# EAGLE library part 68712014522 (library Eagle_FPC_CONNECTOR_AND_FFC_CAB (rev18c))
WE-FPC 0.5mm SMT ZIF Horizontal Bottom Contact, 20 Pins=>Code : Con_FPC_ZIF_0.50_68712014522 <http://katalog.we-online.de/media/images/eican/Con_FPC_ZIF_0.50_6871xx14522_pf2.jpg> Details see: http://katalog.we-online.de/en/em/687_1xx_145_22 Created 2014-07-09, Karrer Zheng 2014 (C) Würth Elektronik
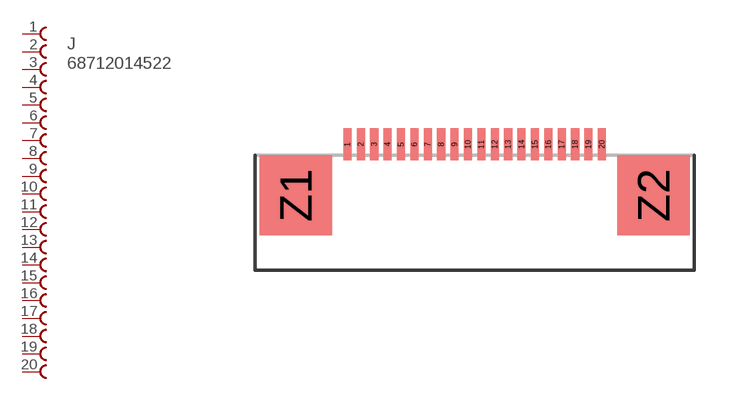
[diagram p59: symbol with the pads of 68712014522; footprint 68712014522]

Designator prefix J

## 68712014522  [68712014522]
1  1  pas
2  2  pas
3  3  pas
4  4  pas
5  5  pas
6  6  pas
7  7  pas
8  8  pas
9  9  pas
10  10  pas
11  11  pas
12  12  pas
13  13  pas
14  14  pas
15  15  pas
16  16  pas
17  17  pas
18  18  pas
19  19  pas
20  20  pas

## Footprint 68712014522 (pad centres in mm)
WE-FPC 0.5mm SMT ZIF Horizontal Bottom Contact, 20 Pins
smd 0.3 x 1.2: 1 -4.75,1.9; 2 -4.25,1.9; 3 -3.75,1.9; 4 -3.25,1.9; 5 -2.75,1.9; 6 -2.25,1.9; 7 -1.75,1.9; 8 -1.25,1.9; 9 -0.75,1.9; 10 -0.25,1.9; 11 0.25,1.9; 12 0.75,1.9; 13 1.25,1.9; 14 1.75,1.9; 15 2.25,1.9; 16 2.75,1.9; 17 3.25,1.9; 18 3.75,1.9; 19 4.25,1.9; 20 4.75,1.9
smd 2.7 x 3: Z1 -6.68,0; Z2 6.68,0